# Altium footprint library SMD-8C.PcbLib: 1 footprints
Each footprint in its own frame and in the unit in brackets; x right, y up, seen from the top. Pads: shape width x height; smd on the part's side, far side on the other; paste and mask are expansions set on the pad; w line width, h text height; cw(c..) or ccw(c..) is an arc to the next point about the centre after c.
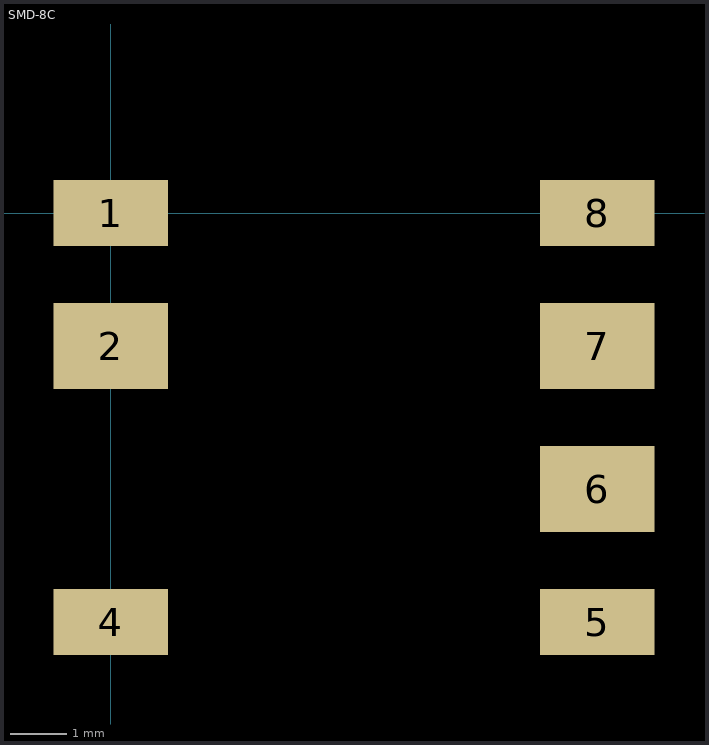
[diagram p0: the footprint, top view; thin cyan lines are the x and y axes]

## SMD-8C [mil] "Power Integrations TNY277GN"
pads (7):
  rect 80x46 smd: 1(0,0) 4(0,-286) 5(340,-286) 8(340,0)
  rect 80x60 smd: 2(0,-93) 6(340,-193) 7(340,-93)
Bottom Overlay:
  circle w10: c93.66,-15 r26.34
  lines w10: 50,50 50,-335 290,-335 290,55 230,55 ; 50,55 110,55 110,50 ccw(c160,50) 160,0 170,0 ccw(c170,55) 225,55